# Altium schematic symbol library Sheye-Others.SchLib: 39 symbols
Pins are listed as number, name and electrical type; pins without a type are passive.

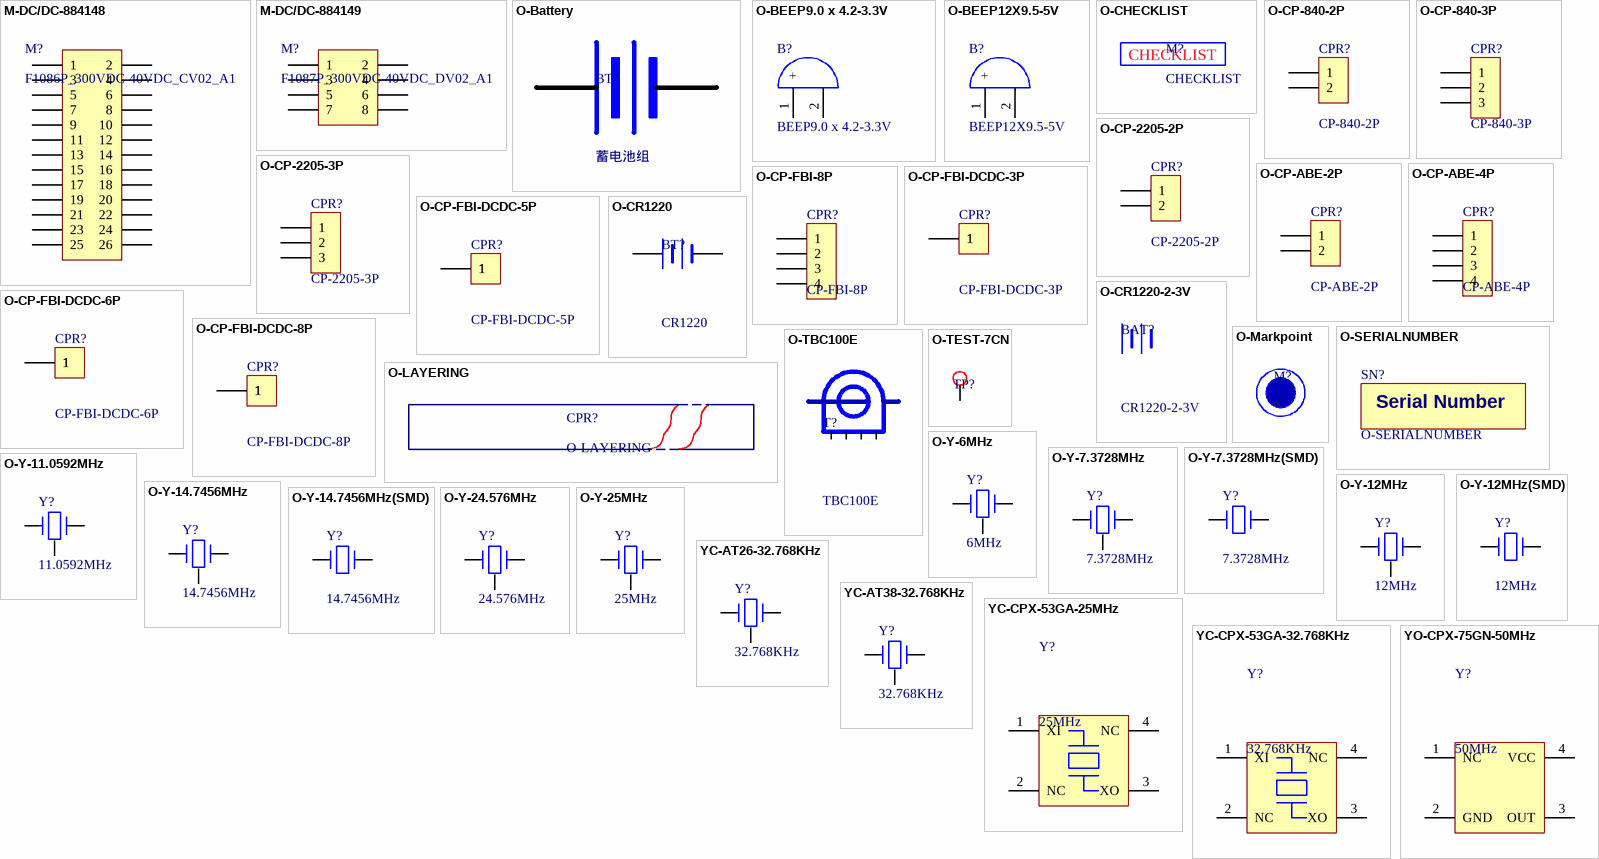
[diagram p0: symbols M-DC/DC-884148 to YO-CPX-75GN-50MHz]

## M-DC/DC-884148
designator M?, comment F1086P_300VDC-40VDC_CV02_A1
降压模块控制板; 货品编码: 884148
footprint M-DC/DC-CV02 (Footprint not found)
pins: 1, 2, 3, 4, 5, 6, 7, 8, 9, 10, 11, 12, 13, 14, 15, 16, 17, 18, 19, 20, 21, 22, 23, 24, 25, 26

## M-DC/DC-884149
designator M?, comment F1087P_300VDC-40VDC_DV02_A1
降压模块IGBT驱动板; 货品编码: 884149
footprint M-DC/DC-DV02 (Footprint not found)
pins: 1, 2, 3, 4, 5, 6, 7, 8

## O-Battery
designator BT?, comment 蓄电池组
规格型号: 蓄电池组（仅画框图使用，部附件中删除）; 备注: *; 供应商: *

## O-BEEP9.0 x 4.2-3.3V
designator B?, comment BEEP9.0 x 4.2-3.3V
蜂鸣器; 规格型号: 电磁式有源一体式 3.3V蜂鸣器 尺寸9.0 x 4.2mm; 货品编码: 391001; 品牌: *; 备注: *; 供应商: *
footprint BEEP9.0 x 4.2-3.3V (Footprint not found)
pins: 1 +, 2 B

## O-BEEP12X9.5-5V
designator B?, comment BEEP12X9.5-5V
蜂鸣器; 规格型号: 电磁式有源一体式 5V蜂鸣器 尺寸12X9.5mm; 货品编码: 391001; 备注: *; 供应商: *
footprint BEEP12X9.5-5V
pins: 1 +, 2 B

## O-CHECKLIST
designator M?, comment CHECKLIST
测试表单
footprint CHECKLIST

## O-CP-840-2P
designator CPR?, comment CP-840-2P
定制铜排; 货品编码: 样品无编码; 供应商: *; 规格型号: CP-840-2P; 备注: *
footprint CP-840-2P (COPPER840-2P)
footprint CP-840-2P/S1 (COPPER840-1S)
pins: 1, 2

## O-CP-840-3P
designator CPR?, comment CP-840-3P
定制铜排; 货品编码: 样品无编码; 供应商: *; 规格型号: CP-840-3P; 备注: *
footprint CP-840-3P (COPPER840-3P)
pins: 1, 2, 3

## O-CP-2205-2P
designator CPR?, comment CP-2205-2P
定制铜排; 货品编码: 样品无编码; 供应商: *; 规格型号: CP-2205-2P; 备注: *
footprint CP-2205-2P
pins: 1, 2

## O-CP-2205-3P
designator CPR?, comment CP-2205-3P
定制铜排; 货品编码: 样品无编码; 供应商: *; 规格型号: CP-2205-3P; 备注: *
footprint CP-2205-3P
pins: 1, 2, 3

## O-CP-ABE-2P
designator CPR?, comment CP-ABE-2P
定制铜排; 货品编码: 样品无编码; 供应商: *; 规格型号: CP-ABE-2P; 备注: *
footprint CP-ABE-2P (COPPER_ABE-2S)
footprint CP-ABE-2P/S1 (COPPER_ABE-1S)
pins: 1, 2

## O-CP-ABE-4P
designator CPR?, comment CP-ABE-4P
定制铜排; 货品编码: 106019; 供应商: *; 规格型号: CP-ABE-4P; 备注: *
footprint CP-ABE-4P (COPPER_ABE-4S)
pins: 1, 2, 3, 4

## O-CP-FBI-8P
designator CPR?, comment CP-FBI-8P
定制铜排; 货品编码: 样品无编码; 供应商: *; 规格型号: CP-FBI-8P; 备注: *
footprint CP-FBI-8P (COPPERFBI-8P-2.0mm)
pins: 1, 2, 3, 4

## O-CP-FBI-DCDC-3P
designator CPR?, comment CP-FBI-DCDC-3P
定制铜排; 货品编码: 样品无编码; 供应商: *; 规格型号: CP-FBI-DCDC-3P; 备注: *
footprint CP-FBI-DCDC-3P
pins: 1, 1, 1

## O-CP-FBI-DCDC-5P
designator CPR?, comment CP-FBI-DCDC-5P
定制铜排; 货品编码: 样品无编码; 供应商: *; 规格型号: CP-FBI-DCDC-5P; 备注: *
footprint CP-FBI-DCDC-5P
pins: 1, 1, 1, 1, 1

## O-CP-FBI-DCDC-6P
designator CPR?, comment CP-FBI-DCDC-6P
定制铜排; 货品编码: 样品无编码; 供应商: *; 规格型号: CP-FBI-DCDC-6P; 备注: *
footprint CP-FBI-DCDC-6P
pins: 1, 1, 1, 1, 1, 1

## O-CP-FBI-DCDC-8P
designator CPR?, comment CP-FBI-DCDC-8P
定制铜排; 货品编码: 样品无编码; 供应商: *; 规格型号: CP-FBI-DCDC-8P; 备注: *
footprint CP-FBI-DCDC-8P
pins: 1, 1, 1, 1, 1, 1, 1

## O-CR1220
designator BT?, comment CR1220
钮扣电池座; 规格型号: CR1220钮扣电池座; 货品编码: 391003; 备注: *; 供应商: *
footprint CR1220-2
pins: 1 +, 2 -

## O-CR1220-2-3V
designator BAT?, comment CR1220-2-3V
钮扣电池; 规格型号: CR1220-2 3V钮扣电池; 货品编码: 391002; 备注: *; 供应商: *

## O-LAYERING
designator CPR?
MOS管压条; 货品编码: 样品无编码; 规格型号: LAYERING; 备注: *; 供应商: *
footprint LAYERING-8
footprint LAYERING-9

## O-Markpoint
designator M?
MARK点
footprint MarkGlobal1

## O-SERIALNUMBER
designator SN?
序列号标签
footprint SERIALNUMBER
text: Serial Number

## O-TBC100E
designator T?, comment TBC100E
霍尔电流传感器; 货品编码: 214003; 规格型号: 霍尔电流传感器; 备注: *; 供应商: *
pins: 1, 2, 3, 4

## O-TEST-7CN
designator TP?, comment TEST-7CN  (value not drawn)
测试点; 货品编码: 372025; 生产商: 康扬; 备注: *; 规格型号: TEST-7CN
footprint TEST-7N
footprint TEST-7N
pins: 1

## O-Y-6MHz
designator Y?, comment 6MHz
晶振-插件; 规格型号: 石英晶振 直插 6MHz; 货品编码: 361007; 供应商: *; 备注: *
footprint Y-HC-49S (XTAL-HC-49S)
pins: 1, 2, 3

## O-Y-7.3728MHz
designator Y?, comment 7.3728MHz
晶振-插件; 规格型号: 石英晶振 直插 7.3728MHz; 货品编码: 361003; 供应商: *; 备注: *
footprint Y-HC-49S (XTAL-HC-49S)
pins: 1, 2, 3

## O-Y-7.3728MHz(SMD)
designator Y?, comment 7.3728MHz
晶振-贴片无源; 规格型号: 石英晶振 贴片 7.3728MHz; 货品编码: 361012; 供应商: *; 备注: *
footprint Y-HC-49USMD (Craystal_SMD)
pins: 1, 2

## O-Y-11.0592MHz
designator Y?, comment 11.0592MHz
晶振-插件; 规格型号: 石英晶振 直插 11.0592MHz; 货品编码: 361001; 供应商: *; 备注: *
footprint Y-HC-49S (XTAL-HC-49S)
pins: 1, 2, 3

## O-Y-12MHz
designator Y?, comment 12MHz
晶振-插件; 规格型号: 石英晶振 直插 12MHz; 货品编码: 361005; 供应商: *; 备注: *
footprint Y-HC-49S (XTAL-HC-49S)
pins: 1, 2, 3

## O-Y-12MHz(SMD)
designator Y?, comment 12MHz
晶振-贴片无源; 规格型号: 石英晶振 贴片 12MHz; 货品编码: 361011; 供应商: *; 备注: *
footprint Y-HC-49USMD (Craystal_SMD)
pins: 1, 2

## O-Y-14.7456MHz
designator Y?, comment 14.7456MHz
晶振-插件; 规格型号: 石英晶振 直插 14.7456MHz; 货品编码: 361013; 供应商: *; 备注: *
footprint Y-HC-49S (XTAL-HC-49S)
pins: 1, 2, 3

## O-Y-14.7456MHz(SMD)
designator Y?, comment 14.7456MHz
晶振-贴片无源; 规格型号: 石英晶振 贴片 14.7456MHz; 货品编码: 361013; 供应商: *; 备注: *
footprint Y-HC-49USMD (Craystal_SMD)
pins: 1, 2

## O-Y-24.576MHz
designator Y?, comment 24.576MHz
晶振-插件; 规格型号: 石英晶振 直插 24.576MHz; 货品编码: 361008; 供应商: *; 备注: *
footprint Y-HC-49S (XTAL-HC-49S)
pins: 1, 2, 3

## O-Y-25MHz
designator Y?, comment 25MHz
晶振-插件; 规格型号: 石英晶振 直插 25MHz; 货品编码: 361004; 供应商: *; 备注: *
footprint Y-HC-49S (XTAL-HC-49S)
pins: 1, 2, 3

## YC-AT26-32.768KHz
designator Y?, comment 32.768KHz
晶振-插件无源; 规格型号: 32.768KHz_圆柱2x6; 货品编码: 无样品无编码; 生产商: *; 供应商: *; 备注: *
pins: 1, 2, 3

## YC-AT38-32.768KHz
designator Y?, comment 32.768KHz
晶振-插件无源; 规格型号: 32.768KHz_圆柱3x8; 货品编码: 361002; 供应商: *; 备注: *
footprint Y-AT38 (XTAL-AT38)
pins: 1, 2, 3

## YC-CPX-53GA-25MHz
designator Y?, comment 25MHz
晶振-贴片无源; 规格型号: 25MHz_5.0*3.2*0.8-4P; 货品编码: 无样品无编码; 生产商: *; 供应商: *; 备注: *
footprint Y-CPX-53GA-4P (Footprint not found)
pins: 1 XI, 2 NC, 3 XO, 4 NC
2 alternate drawings of the same symbol

## YC-CPX-53GA-32.768KHz
designator Y?, comment 32.768KHz
晶振-贴片无源; 规格型号: 32.768KHz_5.0*3.2*0.8-4P; 货品编码: 无样品无编码; 生产商: *; 供应商: *; 备注: *
footprint Y-CPX-53GA-4P (5.0x3.2x0.8-4P)
pins: 1 XI, 2 NC, 3 XO, 4 NC
2 alternate drawings of the same symbol

## YO-CPX-75GN-50MHz
designator Y?, comment 50MHz
晶振-贴片有源; 规格型号: 50MHz_7.0x5.0x0.8-4P; 货品编码: 361009; 供应商: *; 备注: *
footprint Y-CPX75GN-4P (5.0x3.2x0.8-4P)
pins: 1 NC, 2 GND, 3 OUT, 4 VCC
2 alternate drawings of the same symbol